# Altium schematic symbol library USB2.0 Type A Vertical.SchLib: 1 symbol
Pins are listed as number, name and electrical type; pins without a type are passive.

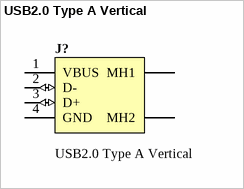
[diagram p0: symbol USB2.0 Type A Vertical]

## USB2.0 Type A Vertical
designator J?
pins: 1 VBUS (power), 2 D- (io), 3 D+ (io), 4 GND (power), MH1, MH2